# Altium schematic symbol library camera_modules.SchLib: 3 symbols
Pins are listed as number, name and electrical type; pins without a type are passive.

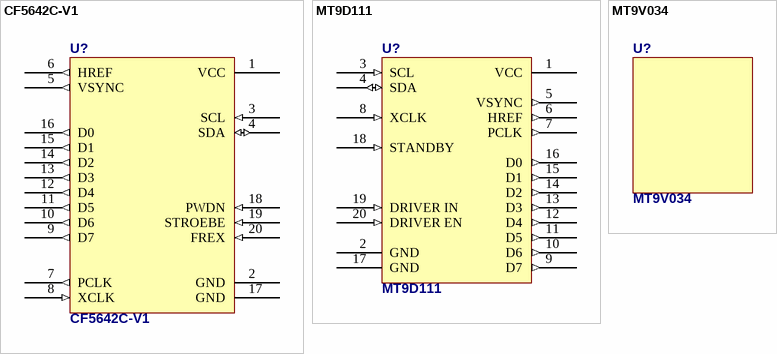
[diagram p0: symbols CF5642C-V1 to MT9V034]

## CF5642C-V1
designator U?
500W Pixel Camera Module With JPEG Output
footprint CF5642C-V1 (500W Pixel Camera Module With JPEG Output)
pins: 1 VCC (power), 2 GND (power), 3 SCL (in), 4 SDA (io), 5 VSYNC (out), 6 HREF (out), 7 PCLK (out), 8 XCLK (in), 9 D7 (out), 10 D6 (out), 11 D5 (out), 12 D4 (out), 13 D3 (out), 14 D2 (out), 15 D1 (out), 16 D0 (out), 17 GND (power), 18 PWDN (in), 19 STROEBE (in), 20 FREX (in)

## MT9D111
designator U?
2 Mega Pixel Camera Module with JPEG Out + HQ lens
footprint MT9D111 (2 Mega Pixel Camera Module + HQ lens)
pins: 1 VCC (power), 2 GND (power), 3 SCL (in), 4 SDA (io), 5 VSYNC (out), 6 HREF (out), 7 PCLK (out), 8 XCLK (in), 9 D7 (out), 10 D6 (out), 11 D5 (out), 12 D4 (out), 13 D3 (out), 14 D2 (out), 15 D1 (out), 16 D0 (out), 17 GND (power), 18 STANDBY (in), 19 DRIVER IN (in), 20 DRIVER EN (in)

## MT9V034
designator U?
MT9V034 Camera Board
footprint MT9V034